# Altium integrated library TI Amplifiers and Linear Special Function Amplifier.IntLib: 708 symbols (part 21 of 47)
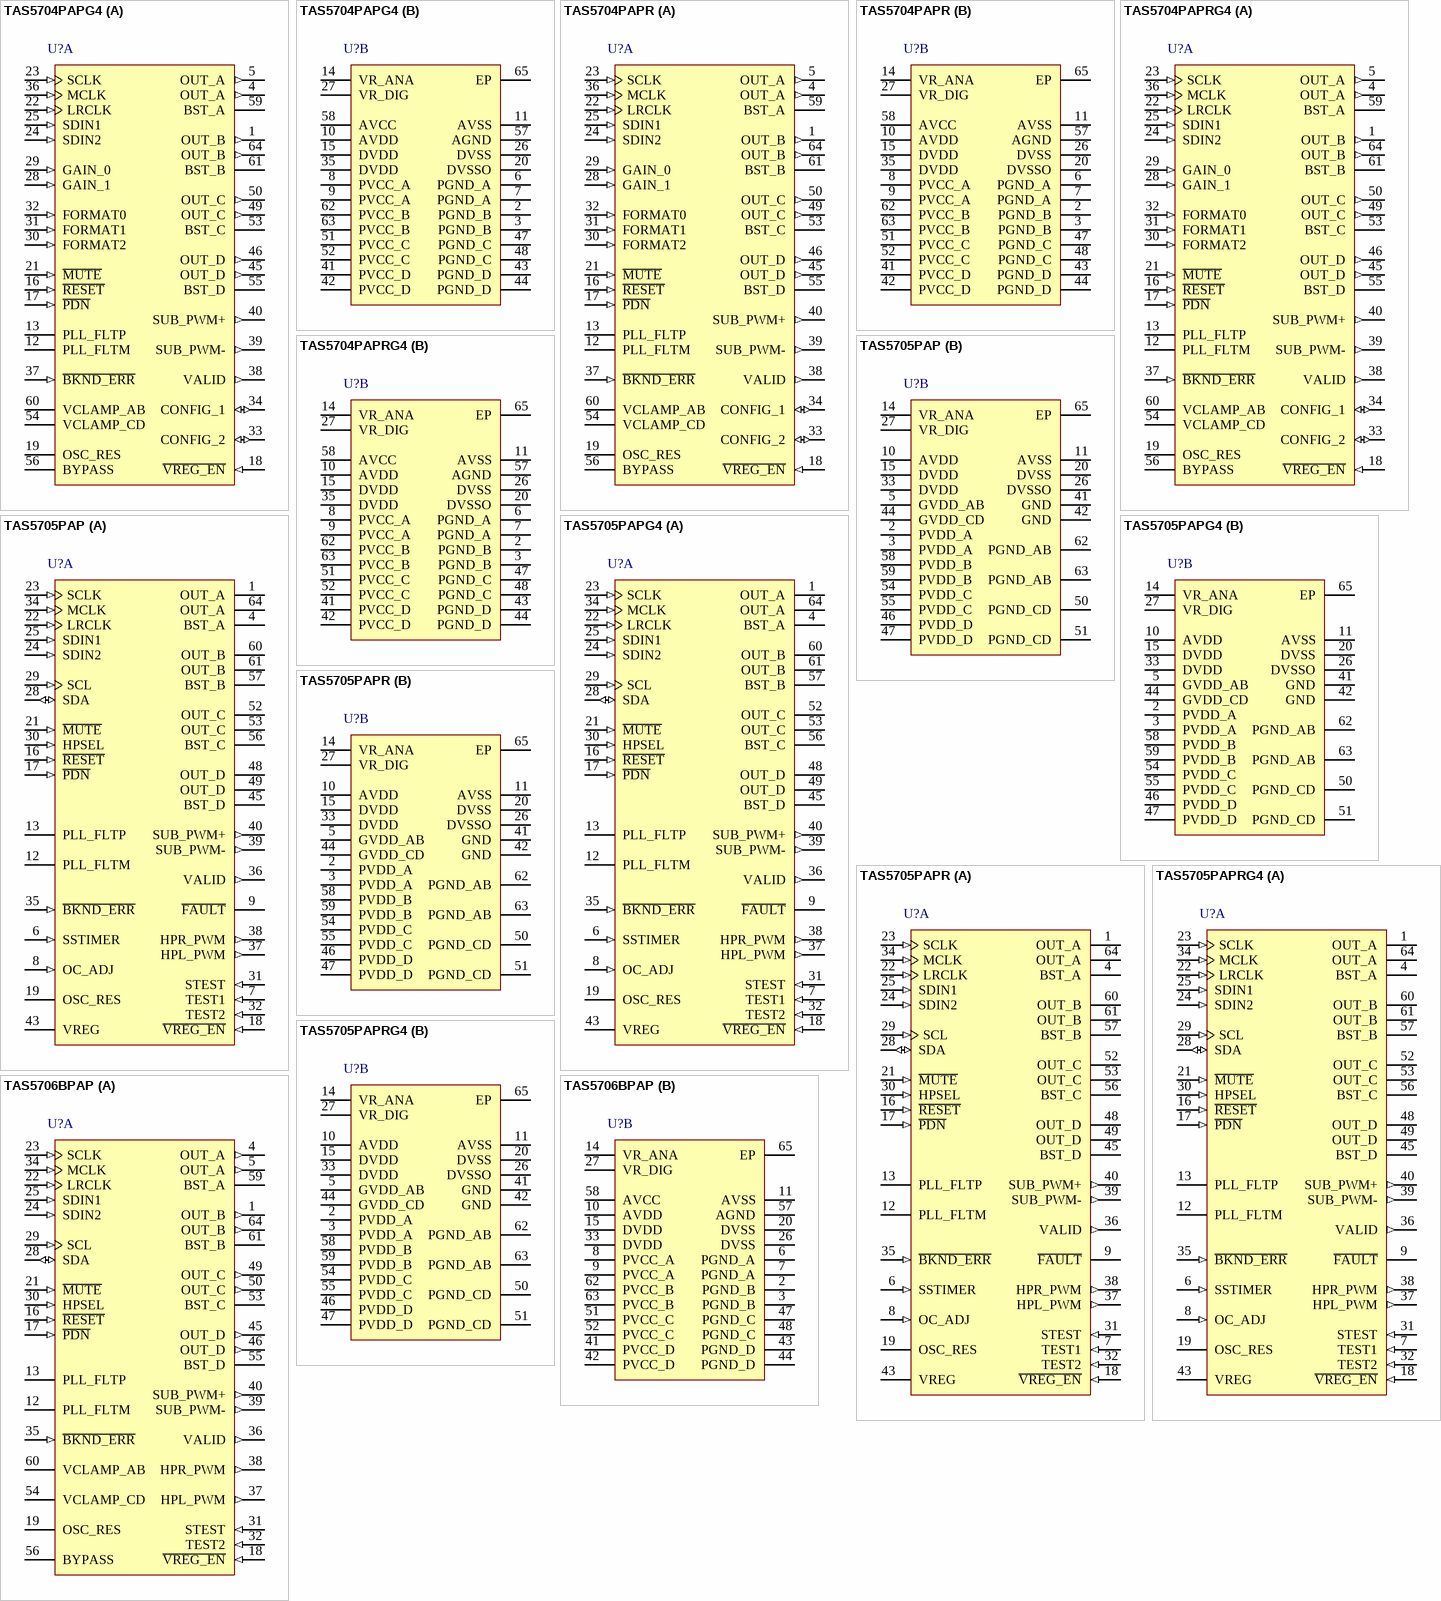
[diagram p59: symbols TAS5704PAPG4 to TAS5706BPAP]

## TAS5706BPAP
designator U?
20 W Closed-Loop I2S Audio Power Amplifier with Speaker EQ, DRC and SE Output Support, 0 to 85 degC, 64-pin QFP (PAP64), Green (RoHS & no Sb/Br); Manufacturer: Texas Instruments; PartNumber: TAS5706BPAP; Analog Supply Max [V]: 3.6; Analog Supply Min [V]: 3; Input Type: Digital; Max. Number of Speaker Outputs: 4; Power Stage Supply Min(V): 10; SubFamily: Mid/High-Power Amplifier; DatasheetVersion: SLOS606D; PackageVersion: 4147702/C, 08/2003; PackageReference: PAP64-4935X4935TP; PackageDescription: 64-Pin Plastic Flat Pack, Body 10 x 10 mm, Pitch 0.5 mm; Supplier 1: Digi-Key; Supplier Part Number 1: 296-24281-ND; Supplier 2: Newark; Supplier Part Number 2: 09R6254; Supplier 3: Mouser; Supplier Part Number 3: 595-TAS5706BPAP; Digital Supply Min [V]: 3; Eco-Plan: Green (RoHS & no Sb/Br); Mounting Technology: Surface Mount; Code_JEDEC: MS-026; ComponentLink1Description: Manufacturer URL; ComponentLink1URL: http://www.ti.com/; ComponentLink2Description: Datasheet; ComponentLink2URL: http://www.ti.com/general/docs/lit/getliterature.tsp?genericPartNumber=TAS5706B&fileType=pdf; ComponentLink3Description: Package Specification; ComponentLink3URL: http://www.ti.com/litv/pdf/mpdi001b
footprint TI-PAP64-4935X4935TP_N (QFP, 64-Leads, Body 10x10mm, Pitch 0.5mm, Thermal Pad 5.3x5.3mm, IPC Medium Density)
footprint TI-PAP64-4935X4935TP_L (QFP, 64-Leads, Body 10x10mm, Pitch 0.5mm, Thermal Pad 5.3x5.3mm, IPC High Density)
footprint TI-PAP64-4935X4935TP_M (QFP, 64-Leads, Body 10x10mm, Pitch 0.5mm, Thermal Pad 5.3x5.3mm, IPC Low Density)
part A pins: 1 OUT_B (out) "Output, half-bridge B", 4 OUT_A (out) "Output, half-bridge A", 5 OUT_A (out) "Output, half-bridge A", 12 PLL_FLTM "PLL negative input", 13 PLL_FLTP "PLL positive input", 16 ~{RESET} (in) "Reset, active-low. A system reset is generated by applying a logic low to this terminal. R\E\S\E\T\ is an asynchronous control signal that restores the DAP to its default conditions, sets the VALID outputs low, and places (See Datasheet)", 17 ~{PDN} (in) "Power down, active-low. P\D\N\ powers down all logic, stops all clocks, and outputs stops switching. When P\D\N\ is released, the device powers up all logic, starts all clocks, and performs a soft start that returns to the (See Datasheet)", 18 ~{VREG_EN} (in) "Voltage regulator enable. Connect directly to GND.", 19 OSC_RES "Oscillator trim resistor. Connect an 18.2-kohm resistor to GND.", 21 ~{MUTE} (in) "Performs a soft mute of outputs, active-low. A logic low on this terminal sets the outputs equal to 50% duty cycle. A logic high on this terminal allows normal operation. The mute control provides a noiseless volume ramp to (See Datasheet)", 22 LRCLK (in) "Input serial audio data left/right clock (sampling rate clock)", 23 SCLK (in) "Serial audio data clock (shift clock). SCLK is the serial audio port input data bit clock.", 24 SDIN2 (in) "Serial audio data-2 input is one of the serial data input ports. SDIN2 supports three discrete (stereo) data formats", 25 SDIN1 (in) "Serial audio data-1 input is one of the serial data input ports. SDIN1 supports three discrete (stereo) data formats.", 28 SDA (io) "I2C serial control data interface input/output", 29 SCL (in) "I2C serial control clock input", 30 HPSEL (in) "Headphone select, active high. When a logic HIGH is applied, device enters headphone mode and speakers are HARD MUTED. When a logic LOW is applied, device is in speaker mode and headphone outputs become line outputs or are (See Datasheet)", 31 STEST (in) "Test terminal. Connect directly to GND.", 32 TEST2 (in) "Test terminal. Connect directly to DVDD.", 34 MCLK (in) "MCLK is the clock master input. The input frequency of this clock can range from 4.9 MHz to 49 MHz.", 35 ~{BKND_ERR} (in) "Active-low. A back-end error sequence is generated by applying logic LOW to this terminal. This terminal is connected to an external power stage. If no external power stage is used, connect this terminal directly to DVDD.", 36 VALID (out) "Output indicating validity of ALL PWM channels, active-high. This terminal is connected to an external power stage. If no external power stage is used, leave this terminal floating.", 37 HPL_PWM (out) "Headphone left-channel PWM output.", 38 HPR_PWM (out) "Headphone right-channel PWM output.", 39 SUB_PWM- (out) "Subwoofer negative PWM output", 40 SUB_PWM+ (out) "Subwoofer positive PWM output", 45 OUT_D (out) "Output, half-bridge D", 46 OUT_D (out) "Output, half-bridge D", 49 OUT_C (out) "Output, half-bridge C", 50 OUT_C (out) "Output, half-bridge C", 53 BST_C "High-side bootstrap supply for half-bridge C", 54 VCLAMP_CD "Internally generated voltage supply for channels C and D gate drive. Not to be used as a supply or connected to any component other than the decoupling capacitor", 55 BST_D "High-side bootstrap supply for half-bridge D", 56 BYPASS "Nominally equal to VCC/8. Internal reference voltage for analog cells", 59 BST_A "High-side bootstrap supply for half-bridge A", 60 VCLAMP_AB "Internally generated voltage supply for channels A and B gate drive. Not to be used as a supply or connected to any component other than the decoupling capacitor", 61 BST_B "High-side bootstrap supply for half-bridge B", 64 OUT_B (out) "Output, half-bridge B"
part B pins: 2 PGND_B (power) "Power ground for half-bridge B", 3 PGND_B (power) "Power ground for half-bridge B", 6 PGND_A (power) "Power ground for half-bridge A", 7 PGND_A (power) "Power ground for half-bridge A", 8 PVCC_A (power) "Power supply input for half-bridge output A", 9 PVCC_A (power) "Power supply input for half-bridge output A", 10 AVDD (power) "3.3-V analog power supply", 11 AVSS (power) "Analog 3.3-V supply ground", 14 VR_ANA (power) "Internally regulated 1.8-V analog supply voltage. This terminal must not be used to power external devices.", 15 DVDD (power) "3.3-V digital power supply", 20 DVSS (power) "Digital ground", 26 DVSS (power) "Digital ground", 27 VR_DIG (power) "Internally regulated 1.8-V digital supply voltage. This terminal must not be used to power external devices.", 33 DVDD (power) "3.3-V digital power supply", 41 PVCC_D (power) "Power supply input for half-bridge output D", 42 PVCC_D (power) "Power supply input for half-bridge output D", 43 PGND_D (power) "Power ground for half-bridge D", 44 PGND_D (power) "Power ground for half-bridge D", 47 PGND_C (power) "Power ground for half-bridge C", 48 PGND_C (power) "Power ground for half-bridge C", 51 PVCC_C (power) "Power supply input for half-bridge output C", 52 PVCC_C (power) "Power supply input for half-bridge output C", 57 AGND (power) "Analog ground for power stage", 58 AVCC (power) "Analog power supply for power stage. Connect externally to same potential as PVCC.", 62 PVCC_B (power) "Power supply input for half-bridge output B", 63 PVCC_B (power) "Power supply input for half-bridge output B", 65 EP

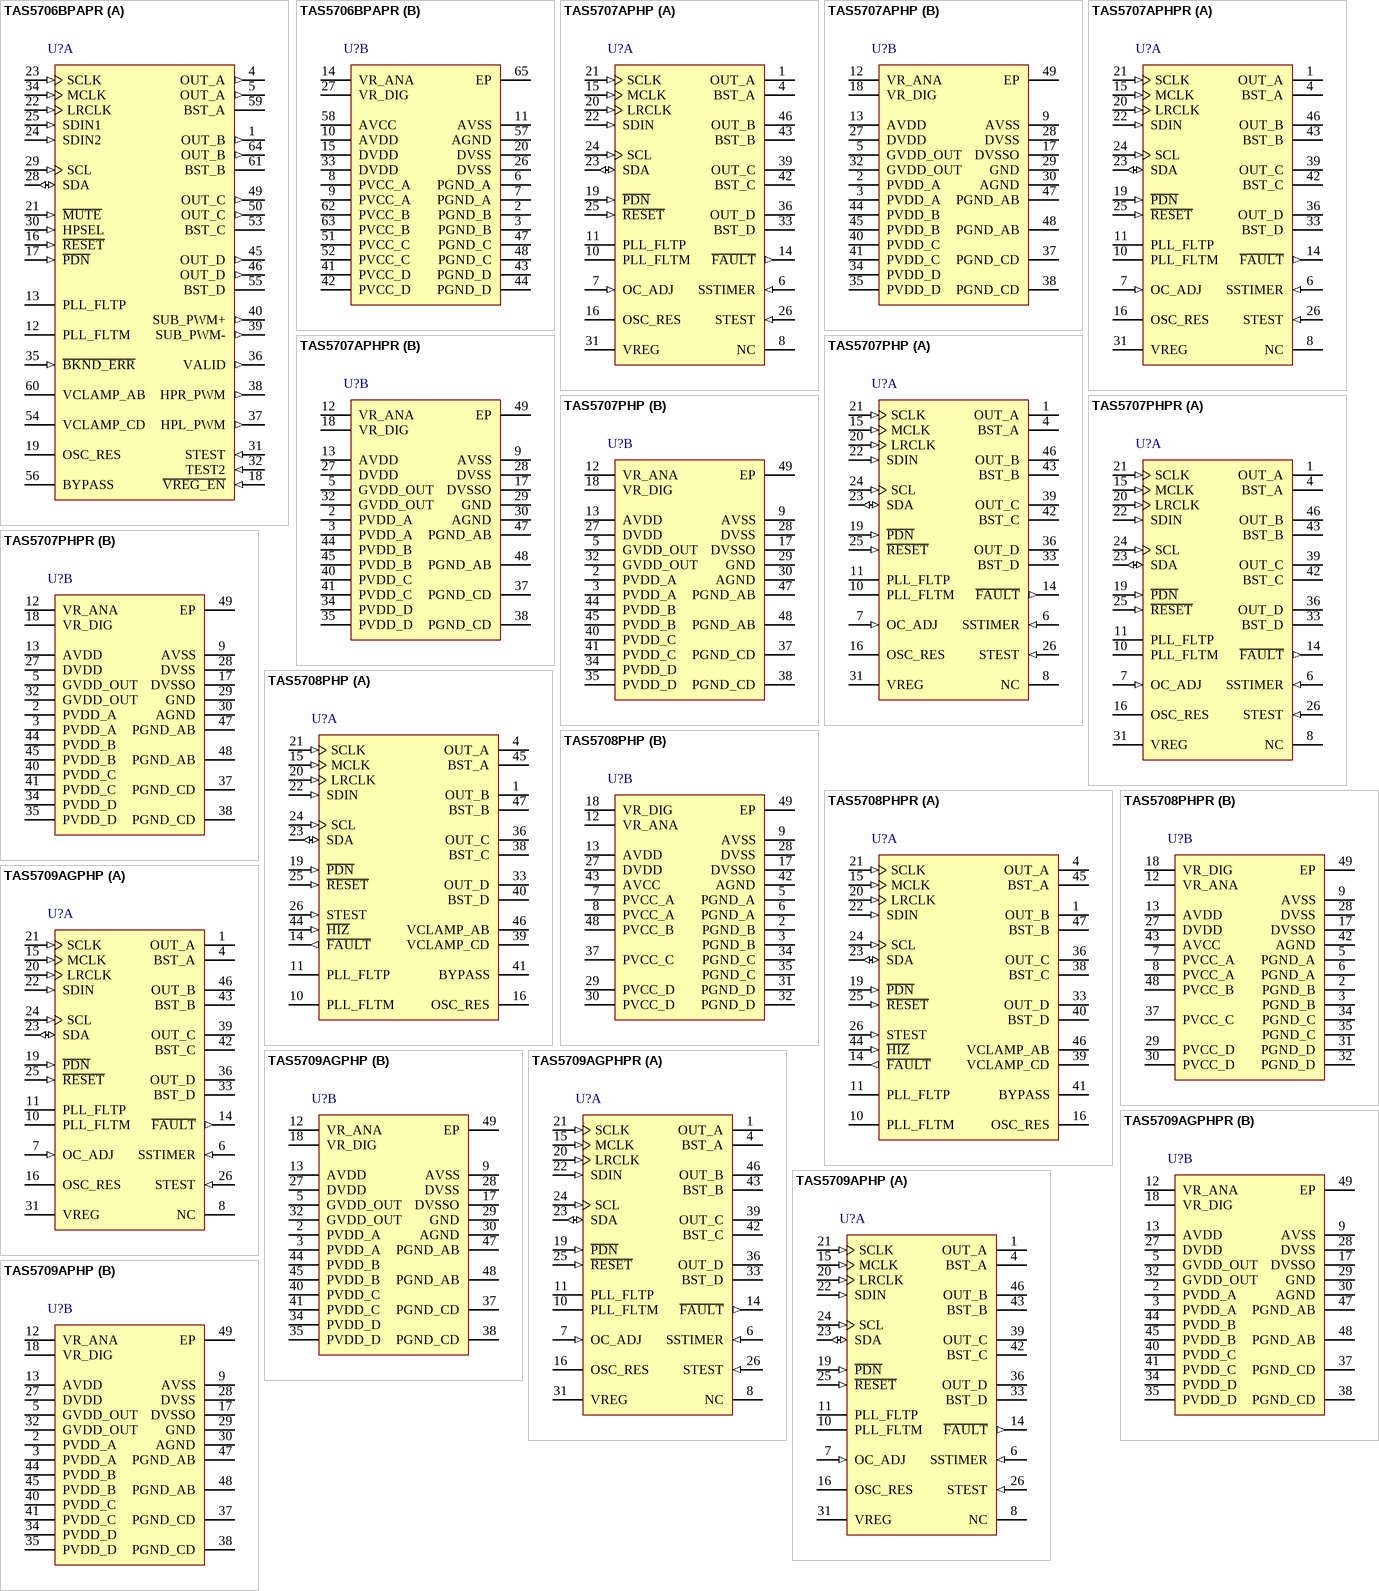
[diagram p20: symbols TAS5706BPAPR to TAS5709APHP]

## TAS5706BPAPR
designator U?
20 W Closed-Loop I2S Audio Power Amplifier with Speaker EQ, DRC and SE Output Support, 0 to 85 degC, 64-pin QFP (PAP64), Green (RoHS & no Sb/Br); Manufacturer: Texas Instruments; PartNumber: TAS5706BPAPR; Analog Supply Max [V]: 3.6; Analog Supply Min [V]: 3; Input Type: Digital; Max. Number of Speaker Outputs: 4; Power Stage Supply Min(V): 10; SubFamily: Mid/High-Power Amplifier; DatasheetVersion: SLOS606D; PackageVersion: 4147702/C, 08/2003; PackageReference: PAP64-4935X4935TP; PackageDescription: 64-Pin Plastic Flat Pack, Body 10 x 10 mm, Pitch 0.5 mm; Supplier 1: Digi-Key; Supplier Part Number 1: TAS5706BPAPR-ND; Supplier 2: Mouser; Supplier Part Number 2: 595-TAS5706BPAPR; Digital Supply Min [V]: 3; Eco-Plan: Green (RoHS & no Sb/Br); Mounting Technology: Surface Mount; Code_JEDEC: MS-026; ComponentLink1Description: Manufacturer URL; ComponentLink1URL: http://www.ti.com/; ComponentLink2Description: Datasheet; ComponentLink2URL: http://www.ti.com/general/docs/lit/getliterature.tsp?genericPartNumber=TAS5706B&fileType=pdf; ComponentLink3Description: Package Specification; ComponentLink3URL: http://www.ti.com/litv/pdf/mpdi001b
footprint TI-PAP64-4935X4935TP_N (QFP, 64-Leads, Body 10x10mm, Pitch 0.5mm, Thermal Pad 5.3x5.3mm, IPC Medium Density)
footprint TI-PAP64-4935X4935TP_L (QFP, 64-Leads, Body 10x10mm, Pitch 0.5mm, Thermal Pad 5.3x5.3mm, IPC High Density)
footprint TI-PAP64-4935X4935TP_M (QFP, 64-Leads, Body 10x10mm, Pitch 0.5mm, Thermal Pad 5.3x5.3mm, IPC Low Density)
part A pins: 1 OUT_B (out) "Output, half-bridge B", 4 OUT_A (out) "Output, half-bridge A", 5 OUT_A (out) "Output, half-bridge A", 12 PLL_FLTM "PLL negative input", 13 PLL_FLTP "PLL positive input", 16 ~{RESET} (in) "Reset, active-low. A system reset is generated by applying a logic low to this terminal. R\E\S\E\T\ is an asynchronous control signal that restores the DAP to its default conditions, sets the VALID outputs low, and places (See Datasheet)", 17 ~{PDN} (in) "Power down, active-low. P\D\N\ powers down all logic, stops all clocks, and outputs stops switching. When P\D\N\ is released, the device powers up all logic, starts all clocks, and performs a soft start that returns to the (See Datasheet)", 18 ~{VREG_EN} (in) "Voltage regulator enable. Connect directly to GND.", 19 OSC_RES "Oscillator trim resistor. Connect an 18.2-kohm resistor to GND.", 21 ~{MUTE} (in) "Performs a soft mute of outputs, active-low. A logic low on this terminal sets the outputs equal to 50% duty cycle. A logic high on this terminal allows normal operation. The mute control provides a noiseless volume ramp to (See Datasheet)", 22 LRCLK (in) "Input serial audio data left/right clock (sampling rate clock)", 23 SCLK (in) "Serial audio data clock (shift clock). SCLK is the serial audio port input data bit clock.", 24 SDIN2 (in) "Serial audio data-2 input is one of the serial data input ports. SDIN2 supports three discrete (stereo) data formats", 25 SDIN1 (in) "Serial audio data-1 input is one of the serial data input ports. SDIN1 supports three discrete (stereo) data formats.", 28 SDA (io) "I2C serial control data interface input/output", 29 SCL (in) "I2C serial control clock input", 30 HPSEL (in) "Headphone select, active high. When a logic HIGH is applied, device enters headphone mode and speakers are HARD MUTED. When a logic LOW is applied, device is in speaker mode and headphone outputs become line outputs or are (See Datasheet)", 31 STEST (in) "Test terminal. Connect directly to GND.", 32 TEST2 (in) "Test terminal. Connect directly to DVDD.", 34 MCLK (in) "MCLK is the clock master input. The input frequency of this clock can range from 4.9 MHz to 49 MHz.", 35 ~{BKND_ERR} (in) "Active-low. A back-end error sequence is generated by applying logic LOW to this terminal. This terminal is connected to an external power stage. If no external power stage is used, connect this terminal directly to DVDD.", 36 VALID (out) "Output indicating validity of ALL PWM channels, active-high. This terminal is connected to an external power stage. If no external power stage is used, leave this terminal floating.", 37 HPL_PWM (out) "Headphone left-channel PWM output.", 38 HPR_PWM (out) "Headphone right-channel PWM output.", 39 SUB_PWM- (out) "Subwoofer negative PWM output", 40 SUB_PWM+ (out) "Subwoofer positive PWM output", 45 OUT_D (out) "Output, half-bridge D", 46 OUT_D (out) "Output, half-bridge D", 49 OUT_C (out) "Output, half-bridge C", 50 OUT_C (out) "Output, half-bridge C", 53 BST_C "High-side bootstrap supply for half-bridge C", 54 VCLAMP_CD "Internally generated voltage supply for channels C and D gate drive. Not to be used as a supply or connected to any component other than the decoupling capacitor", 55 BST_D "High-side bootstrap supply for half-bridge D", 56 BYPASS "Nominally equal to VCC/8. Internal reference voltage for analog cells", 59 BST_A "High-side bootstrap supply for half-bridge A", 60 VCLAMP_AB "Internally generated voltage supply for channels A and B gate drive. Not to be used as a supply or connected to any component other than the decoupling capacitor", 61 BST_B "High-side bootstrap supply for half-bridge B", 64 OUT_B (out) "Output, half-bridge B"
part B pins: 2 PGND_B (power) "Power ground for half-bridge B", 3 PGND_B (power) "Power ground for half-bridge B", 6 PGND_A (power) "Power ground for half-bridge A", 7 PGND_A (power) "Power ground for half-bridge A", 8 PVCC_A (power) "Power supply input for half-bridge output A", 9 PVCC_A (power) "Power supply input for half-bridge output A", 10 AVDD (power) "3.3-V analog power supply", 11 AVSS (power) "Analog 3.3-V supply ground", 14 VR_ANA (power) "Internally regulated 1.8-V analog supply voltage. This terminal must not be used to power external devices.", 15 DVDD (power) "3.3-V digital power supply", 20 DVSS (power) "Digital ground", 26 DVSS (power) "Digital ground", 27 VR_DIG (power) "Internally regulated 1.8-V digital supply voltage. This terminal must not be used to power external devices.", 33 DVDD (power) "3.3-V digital power supply", 41 PVCC_D (power) "Power supply input for half-bridge output D", 42 PVCC_D (power) "Power supply input for half-bridge output D", 43 PGND_D (power) "Power ground for half-bridge D", 44 PGND_D (power) "Power ground for half-bridge D", 47 PGND_C (power) "Power ground for half-bridge C", 48 PGND_C (power) "Power ground for half-bridge C", 51 PVCC_C (power) "Power supply input for half-bridge output C", 52 PVCC_C (power) "Power supply input for half-bridge output C", 57 AGND (power) "Analog ground for power stage", 58 AVCC (power) "Analog power supply for power stage. Connect externally to same potential as PVCC.", 62 PVCC_B (power) "Power supply input for half-bridge output B", 63 PVCC_B (power) "Power supply input for half-bridge output B", 65 EP

## TAS5707APHP
designator U?
20 W Stereo Digital Audio Power Amplifier with EQ and DRC, 0 to 85 degC, 48-pin QFP (PHP48), Green (RoHS & no Sb/Br); Manufacturer: Texas Instruments; PartNumber: TAS5707APHP; Analog Supply Max [V]: 3.6; Analog Supply Min [V]: 3; Max. Number of Speaker Outputs: 2; Power Stage Supply Min(V): 8; SubFamily: Mid/High-Power Amplifier; DatasheetVersion: SLOS556B; PackageVersion: 4146927/B, 08/2003; PackageReference: PHP48-4550X3600TP; PackageDescription: 48-Pin PowerPAD(TM) Plastic Quad Flatpack, Body 7 x 7 mm, Pitch 0.5 mm; Supplier 1: Digi-Key; Supplier Part Number 1: TAS5707APHP-ND; Supplier 2: Mouser; Supplier Part Number 2: 595-TAS5707APHP; Digital Supply Min [V]: 3; Eco-Plan: Green (RoHS & no Sb/Br); Input Type: Digital; Mounting Technology: Surface Mount; Code_JEDEC: MS-026; ComponentLink1Description: Manufacturer URL; ComponentLink1URL: http://www.ti.com/; ComponentLink2Description: Datasheet; ComponentLink2URL: http://www.ti.com/general/docs/lit/getliterature.tsp?genericPartNumber=TAS5707A&fileType=pdf; ComponentLink3Description: Package Specification; ComponentLink3URL: http://www.ti.com/litv/pdf/mpdi001b
footprint TI-PHP48-4550X3600TP_N (QFP, 48-Leads, Body 7x7mm, Pitch 0.5mm, Thermal Pad 5.17x4.04mm, IPC Medium Density)
footprint TI-PHP48-4550X3600TP_L (QFP, 48-Leads, Body 7x7mm, Pitch 0.5mm, Thermal Pad 5.17x4.04mm, IPC High Density)
footprint TI-PHP48-4550X3600TP_M (QFP, 48-Leads, Body 7x7mm, Pitch 0.5mm, Thermal Pad 5.17x4.04mm, IPC Low Density)
part A pins: 1 OUT_A (hiz) "Output, half-bridge A", 4 BST_A "High-side bootstrap supply for half-bridge A", 6 SSTIMER (in) "Controls ramp time of OUT_X to minimize pop. Leave this pin floating for BD mode. Requires capacitor of 2.2 nF to GND in AD mode. The capacitor determines the ramp time.", 7 OC_ADJ (in) "Analog overcurrent programming. Requires resistor to ground.", 8 NC "No connection", 10 PLL_FLTM "PLL negative loop filter terminal", 11 PLL_FLTP "PLL positive loop filter terminal", 14 ~{FAULT} (out) "Backend error indicator. Asserted LOW for over temperature, over current, over voltage, and under voltage error conditions. De-asserted upon recovery from error condition.", 15 MCLK (in) "Master clock input", 16 OSC_RES "Oscillator trim resistor. Connect an 18.2-kohm 1% resistor to DVSSO.", 19 ~{PDN} (in) "Power down, active-low. P\D\N\ prepares the device for loss of power supplies by shutting down the noise shaper and initiating PWM stop sequence.", 20 LRCLK (in) "Input serial audio data left/right clock (sample rate clock)", 21 SCLK (in) "Serial audio data clock (shift clock). SCLK is the serial audio port input data bit clock.", 22 SDIN (in) "Serial audio data input. SDIN supports three discrete (stereo) data formats.", 23 SDA (io) "I2C serial control data interface input/output", 24 SCL (in) "I2C serial control clock input", 25 ~{RESET} (in) "Reset, active-low. A system reset is generated by applying a logic low to this pin. R\E\S\E\T\ is an asynchronous control signal that restores the DAP to its default conditions, and places the PWM in the hard mute state (See Datasheet)", 26 STEST (in) "Factory test pin. Connect directly to DVSS.", 31 VREG "Digital regulator output. Not to be used for powering external circuitry.", 33 BST_D "High-side bootstrap supply for half-bridge D", 36 OUT_D (hiz) "Output, half-bridge D", 39 OUT_C (hiz) "Output, half-bridge C", 42 BST_C "High-side bootstrap supply for half-bridge C", 43 BST_B "High-side bootstrap supply for half-bridge B", 46 OUT_B (hiz) "Output, half-bridge B"
part B pins: 2 PVDD_A (power) "Power supply input for half-bridge output A", 3 PVDD_A (power) "Power supply input for half-bridge output A", 5 GVDD_OUT (power) "Gate drive internal regulator output", 9 AVSS (power) "Analog 3.3-V supply ground", 12 VR_ANA (power) "Internally regulated 1.8-V analog supply voltage. This pin must not be used to power external devices.", 13 AVDD (power) "3.3-V analog power supply", 17 DVSSO (power) "Oscillator ground", 18 VR_DIG (power) "Internally regulated 1.8-V digital supply voltage. This pin must not be used to power external devices.", 27 DVDD (power) "3.3-V digital power supply", 28 DVSS (power) "Digital ground", 29 GND (power) "Analog ground for power stage", 30 AGND (power) "Analog ground for power stage", 32 GVDD_OUT (power) "Gate drive internal regulator output", 34 PVDD_D (power) "Power supply input for half-bridge output D", 35 PVDD_D (power) "Power supply input for half-bridge output D", 37 PGND_CD (power) "Power ground for half-bridges C and D", 38 PGND_CD (power) "Power ground for half-bridges C and D", 40 PVDD_C (power) "Power supply input for half-bridge output C", 41 PVDD_C (power) "Power supply input for half-bridge output C", 44 PVDD_B (power) "Power supply input for half-bridge output B", 45 PVDD_B (power) "Power supply input for half-bridge output B", 47 PGND_AB (power) "Power ground for half-bridges A and B", 48 PGND_AB (power) "Power ground for half-bridges A and B", 49 EP

## TAS5707APHPR
designator U?
20 W Stereo Digital Audio Power Amplifier with EQ and DRC, 0 to 85 degC, 48-pin QFP (PHP48), Green (RoHS & no Sb/Br); Manufacturer: Texas Instruments; PartNumber: TAS5707APHPR; Analog Supply Max [V]: 3.6; Analog Supply Min [V]: 3; Max. Number of Speaker Outputs: 2; Power Stage Supply Min(V): 8; SubFamily: Mid/High-Power Amplifier; DatasheetVersion: SLOS556B; PackageVersion: 4146927/B, 08/2003; PackageReference: PHP48-4550X3600TP; PackageDescription: 48-Pin PowerPAD(TM) Plastic Quad Flatpack, Body 7 x 7 mm, Pitch 0.5 mm; Supplier 1: Digi-Key; Supplier Part Number 1: 296-25484-2-ND; Supplier 2: Digi-Key; Supplier Part Number 2: 296-25484-1-ND; Supplier 3: Digi-Key; Supplier Part Number 3: 296-25484-6-ND; Supplier 4: Mouser; Supplier Part Number 4: 595-TAS5707APHPR; Digital Supply Min [V]: 3; Eco-Plan: Green (RoHS & no Sb/Br); Input Type: Digital; Mounting Technology: Surface Mount; Code_JEDEC: MS-026; ComponentLink1Description: Manufacturer URL; ComponentLink1URL: http://www.ti.com/; ComponentLink2Description: Datasheet; ComponentLink2URL: http://www.ti.com/general/docs/lit/getliterature.tsp?genericPartNumber=TAS5707A&fileType=pdf; ComponentLink3Description: Package Specification; ComponentLink3URL: http://www.ti.com/litv/pdf/mpdi001b
footprint TI-PHP48-4550X3600TP_N (QFP, 48-Leads, Body 7x7mm, Pitch 0.5mm, Thermal Pad 5.17x4.04mm, IPC Medium Density)
footprint TI-PHP48-4550X3600TP_L (QFP, 48-Leads, Body 7x7mm, Pitch 0.5mm, Thermal Pad 5.17x4.04mm, IPC High Density)
footprint TI-PHP48-4550X3600TP_M (QFP, 48-Leads, Body 7x7mm, Pitch 0.5mm, Thermal Pad 5.17x4.04mm, IPC Low Density)
part A pins: 1 OUT_A (hiz) "Output, half-bridge A", 4 BST_A "High-side bootstrap supply for half-bridge A", 6 SSTIMER (in) "Controls ramp time of OUT_X to minimize pop. Leave this pin floating for BD mode. Requires capacitor of 2.2 nF to GND in AD mode. The capacitor determines the ramp time.", 7 OC_ADJ (in) "Analog overcurrent programming. Requires resistor to ground.", 8 NC "No connection", 10 PLL_FLTM "PLL negative loop filter terminal", 11 PLL_FLTP "PLL positive loop filter terminal", 14 ~{FAULT} (out) "Backend error indicator. Asserted LOW for over temperature, over current, over voltage, and under voltage error conditions. De-asserted upon recovery from error condition.", 15 MCLK (in) "Master clock input", 16 OSC_RES "Oscillator trim resistor. Connect an 18.2-kohm 1% resistor to DVSSO.", 19 ~{PDN} (in) "Power down, active-low. P\D\N\ prepares the device for loss of power supplies by shutting down the noise shaper and initiating PWM stop sequence.", 20 LRCLK (in) "Input serial audio data left/right clock (sample rate clock)", 21 SCLK (in) "Serial audio data clock (shift clock). SCLK is the serial audio port input data bit clock.", 22 SDIN (in) "Serial audio data input. SDIN supports three discrete (stereo) data formats.", 23 SDA (io) "I2C serial control data interface input/output", 24 SCL (in) "I2C serial control clock input", 25 ~{RESET} (in) "Reset, active-low. A system reset is generated by applying a logic low to this pin. R\E\S\E\T\ is an asynchronous control signal that restores the DAP to its default conditions, and places the PWM in the hard mute state (See Datasheet)", 26 STEST (in) "Factory test pin. Connect directly to DVSS.", 31 VREG "Digital regulator output. Not to be used for powering external circuitry.", 33 BST_D "High-side bootstrap supply for half-bridge D", 36 OUT_D (hiz) "Output, half-bridge D", 39 OUT_C (hiz) "Output, half-bridge C", 42 BST_C "High-side bootstrap supply for half-bridge C", 43 BST_B "High-side bootstrap supply for half-bridge B", 46 OUT_B (hiz) "Output, half-bridge B"
part B pins: 2 PVDD_A (power) "Power supply input for half-bridge output A", 3 PVDD_A (power) "Power supply input for half-bridge output A", 5 GVDD_OUT (power) "Gate drive internal regulator output", 9 AVSS (power) "Analog 3.3-V supply ground", 12 VR_ANA (power) "Internally regulated 1.8-V analog supply voltage. This pin must not be used to power external devices.", 13 AVDD (power) "3.3-V analog power supply", 17 DVSSO (power) "Oscillator ground", 18 VR_DIG (power) "Internally regulated 1.8-V digital supply voltage. This pin must not be used to power external devices.", 27 DVDD (power) "3.3-V digital power supply", 28 DVSS (power) "Digital ground", 29 GND (power) "Analog ground for power stage", 30 AGND (power) "Analog ground for power stage", 32 GVDD_OUT (power) "Gate drive internal regulator output", 34 PVDD_D (power) "Power supply input for half-bridge output D", 35 PVDD_D (power) "Power supply input for half-bridge output D", 37 PGND_CD (power) "Power ground for half-bridges C and D", 38 PGND_CD (power) "Power ground for half-bridges C and D", 40 PVDD_C (power) "Power supply input for half-bridge output C", 41 PVDD_C (power) "Power supply input for half-bridge output C", 44 PVDD_B (power) "Power supply input for half-bridge output B", 45 PVDD_B (power) "Power supply input for half-bridge output B", 47 PGND_AB (power) "Power ground for half-bridges A and B", 48 PGND_AB (power) "Power ground for half-bridges A and B", 49 EP

## TAS5707PHP
designator U?
20 W Stereo I2S Audio Power Amplifier with Speaker EQ and DRC, 0 to 85 degC, 48-pin QFP (PHP48), Green (RoHS & no Sb/Br); Manufacturer: Texas Instruments; PartNumber: TAS5707PHP; Analog Supply Max [V]: 3.6; Analog Supply Min [V]: 3; Input Type: Digital; Max. Number of Speaker Outputs: 2; Power Stage Supply Min(V): 8; SubFamily: Mid/High-Power Amplifier; DatasheetVersion: SLOS556B; PackageVersion: 4146927/B, 08/2003; PackageReference: PHP48-4550X3600TP; PackageDescription: 48-Pin PowerPAD(TM) Plastic Quad Flatpack, Body 7 x 7 mm, Pitch 0.5 mm; Supplier 1: Digi-Key; Supplier Part Number 1: TAS5707PHP-ND; Supplier 2: Mouser; Supplier Part Number 2: 595-TAS5707PHP; Digital Supply Min [V]: 3; Eco-Plan: Green (RoHS & no Sb/Br); Mounting Technology: Surface Mount; Code_JEDEC: MS-026; ComponentLink1Description: Manufacturer URL; ComponentLink1URL: http://www.ti.com/; ComponentLink2Description: Datasheet; ComponentLink2URL: http://www.ti.com/general/docs/lit/getliterature.tsp?genericPartNumber=TAS5707&fileType=pdf; ComponentLink3Description: Package Specification; ComponentLink3URL: http://www.ti.com/litv/pdf/mpdi001b
footprint TI-PHP48-4550X3600TP_N (QFP, 48-Leads, Body 7x7mm, Pitch 0.5mm, Thermal Pad 5.17x4.04mm, IPC Medium Density)
footprint TI-PHP48-4550X3600TP_L (QFP, 48-Leads, Body 7x7mm, Pitch 0.5mm, Thermal Pad 5.17x4.04mm, IPC High Density)
footprint TI-PHP48-4550X3600TP_M (QFP, 48-Leads, Body 7x7mm, Pitch 0.5mm, Thermal Pad 5.17x4.04mm, IPC Low Density)
part A pins: 1 OUT_A (hiz) "Output, half-bridge A", 4 BST_A "High-side bootstrap supply for half-bridge A", 6 SSTIMER (in) "Controls ramp time of OUT_X to minimize pop. Leave this pin floating for BD mode. Requires capacitor of 2.2 nF to GND in AD mode. The capacitor determines the ramp time.", 7 OC_ADJ (in) "Analog overcurrent programming. Requires resistor to ground.", 8 NC "No connection", 10 PLL_FLTM "PLL negative loop filter terminal", 11 PLL_FLTP "PLL positive loop filter terminal", 14 ~{FAULT} (out) "Backend error indicator. Asserted LOW for over temperature, over current, over voltage, and under voltage error conditions. De-asserted upon recovery from error condition.", 15 MCLK (in) "Master clock input", 16 OSC_RES "Oscillator trim resistor. Connect an 18.2-kohm 1% resistor to DVSSO.", 19 ~{PDN} (in) "Power down, active-low. P\D\N\ prepares the device for loss of power supplies by shutting down the noise shaper and initiating PWM stop sequence.", 20 LRCLK (in) "Input serial audio data left/right clock (sample rate clock)", 21 SCLK (in) "Serial audio data clock (shift clock). SCLK is the serial audio port input data bit clock.", 22 SDIN (in) "Serial audio data input. SDIN supports three discrete (stereo) data formats.", 23 SDA (io) "I2C serial control data interface input/output", 24 SCL (in) "I2C serial control clock input", 25 ~{RESET} (in) "Reset, active-low. A system reset is generated by applying a logic low to this pin. R\E\S\E\T\ is an asynchronous control signal that restores the DAP to its default conditions, and places the PWM in the hard mute state (See Datasheet)", 26 STEST (in) "Factory test pin. Connect directly to DVSS.", 31 VREG "Digital regulator output. Not to be used for powering external circuitry.", 33 BST_D "High-side bootstrap supply for half-bridge D", 36 OUT_D (hiz) "Output, half-bridge D", 39 OUT_C (hiz) "Output, half-bridge C", 42 BST_C "High-side bootstrap supply for half-bridge C", 43 BST_B "High-side bootstrap supply for half-bridge B", 46 OUT_B (hiz) "Output, half-bridge B"
part B pins: 2 PVDD_A (power) "Power supply input for half-bridge output A", 3 PVDD_A (power) "Power supply input for half-bridge output A", 5 GVDD_OUT (power) "Gate drive internal regulator output", 9 AVSS (power) "Analog 3.3-V supply ground", 12 VR_ANA (power) "Internally regulated 1.8-V analog supply voltage. This pin must not be used to power external devices.", 13 AVDD (power) "3.3-V analog power supply", 17 DVSSO (power) "Oscillator ground", 18 VR_DIG (power) "Internally regulated 1.8-V digital supply voltage. This pin must not be used to power external devices.", 27 DVDD (power) "3.3-V digital power supply", 28 DVSS (power) "Digital ground", 29 GND (power) "Analog ground for power stage", 30 AGND (power) "Analog ground for power stage", 32 GVDD_OUT (power) "Gate drive internal regulator output", 34 PVDD_D (power) "Power supply input for half-bridge output D", 35 PVDD_D (power) "Power supply input for half-bridge output D", 37 PGND_CD (power) "Power ground for half-bridges C and D", 38 PGND_CD (power) "Power ground for half-bridges C and D", 40 PVDD_C (power) "Power supply input for half-bridge output C", 41 PVDD_C (power) "Power supply input for half-bridge output C", 44 PVDD_B (power) "Power supply input for half-bridge output B", 45 PVDD_B (power) "Power supply input for half-bridge output B", 47 PGND_AB (power) "Power ground for half-bridges A and B", 48 PGND_AB (power) "Power ground for half-bridges A and B", 49 EP

## TAS5707PHPR
designator U?
20 W Stereo I2S Audio Power Amplifier with Speaker EQ and DRC, 0 to 85 degC, 48-pin QFP (PHP48), Green (RoHS & no Sb/Br); Manufacturer: Texas Instruments; PartNumber: TAS5707PHPR; Analog Supply Max [V]: 3.6; Analog Supply Min [V]: 3; Input Type: Digital; Max. Number of Speaker Outputs: 2; Power Stage Supply Min(V): 8; SubFamily: Mid/High-Power Amplifier; DatasheetVersion: SLOS556B; PackageVersion: 4146927/B, 08/2003; PackageReference: PHP48-4550X3600TP; PackageDescription: 48-Pin PowerPAD(TM) Plastic Quad Flatpack, Body 7 x 7 mm, Pitch 0.5 mm; Supplier 1: Digi-Key; Supplier Part Number 1: 296-23921-2-ND; Supplier 2: Digi-Key; Supplier Part Number 2: 296-23921-1-ND; Supplier 3: Digi-Key; Supplier Part Number 3: 296-23921-6-ND; Supplier 4: Mouser; Supplier Part Number 4: 595-TAS5707PHPR; Digital Supply Min [V]: 3; Eco-Plan: Green (RoHS & no Sb/Br); Mounting Technology: Surface Mount; Code_JEDEC: MS-026; ComponentLink1Description: Manufacturer URL; ComponentLink1URL: http://www.ti.com/; ComponentLink2Description: Datasheet; ComponentLink2URL: http://www.ti.com/general/docs/lit/getliterature.tsp?genericPartNumber=TAS5707&fileType=pdf; ComponentLink3Description: Package Specification; ComponentLink3URL: http://www.ti.com/litv/pdf/mpdi001b
footprint TI-PHP48-4550X3600TP_N (QFP, 48-Leads, Body 7x7mm, Pitch 0.5mm, Thermal Pad 5.17x4.04mm, IPC Medium Density)
footprint TI-PHP48-4550X3600TP_L (QFP, 48-Leads, Body 7x7mm, Pitch 0.5mm, Thermal Pad 5.17x4.04mm, IPC High Density)
footprint TI-PHP48-4550X3600TP_M (QFP, 48-Leads, Body 7x7mm, Pitch 0.5mm, Thermal Pad 5.17x4.04mm, IPC Low Density)
part A pins: 1 OUT_A (hiz) "Output, half-bridge A", 4 BST_A "High-side bootstrap supply for half-bridge A", 6 SSTIMER (in) "Controls ramp time of OUT_X to minimize pop. Leave this pin floating for BD mode. Requires capacitor of 2.2 nF to GND in AD mode. The capacitor determines the ramp time.", 7 OC_ADJ (in) "Analog overcurrent programming. Requires resistor to ground.", 8 NC "No connection", 10 PLL_FLTM "PLL negative loop filter terminal", 11 PLL_FLTP "PLL positive loop filter terminal", 14 ~{FAULT} (out) "Backend error indicator. Asserted LOW for over temperature, over current, over voltage, and under voltage error conditions. De-asserted upon recovery from error condition.", 15 MCLK (in) "Master clock input", 16 OSC_RES "Oscillator trim resistor. Connect an 18.2-kohm 1% resistor to DVSSO.", 19 ~{PDN} (in) "Power down, active-low. P\D\N\ prepares the device for loss of power supplies by shutting down the noise shaper and initiating PWM stop sequence.", 20 LRCLK (in) "Input serial audio data left/right clock (sample rate clock)", 21 SCLK (in) "Serial audio data clock (shift clock). SCLK is the serial audio port input data bit clock.", 22 SDIN (in) "Serial audio data input. SDIN supports three discrete (stereo) data formats.", 23 SDA (io) "I2C serial control data interface input/output", 24 SCL (in) "I2C serial control clock input", 25 ~{RESET} (in) "Reset, active-low. A system reset is generated by applying a logic low to this pin. R\E\S\E\T\ is an asynchronous control signal that restores the DAP to its default conditions, and places the PWM in the hard mute state (See Datasheet)", 26 STEST (in) "Factory test pin. Connect directly to DVSS.", 31 VREG "Digital regulator output. Not to be used for powering external circuitry.", 33 BST_D "High-side bootstrap supply for half-bridge D", 36 OUT_D (hiz) "Output, half-bridge D", 39 OUT_C (hiz) "Output, half-bridge C", 42 BST_C "High-side bootstrap supply for half-bridge C", 43 BST_B "High-side bootstrap supply for half-bridge B", 46 OUT_B (hiz) "Output, half-bridge B"
part B pins: 2 PVDD_A (power) "Power supply input for half-bridge output A", 3 PVDD_A (power) "Power supply input for half-bridge output A", 5 GVDD_OUT (power) "Gate drive internal regulator output", 9 AVSS (power) "Analog 3.3-V supply ground", 12 VR_ANA (power) "Internally regulated 1.8-V analog supply voltage. This pin must not be used to power external devices.", 13 AVDD (power) "3.3-V analog power supply", 17 DVSSO (power) "Oscillator ground", 18 VR_DIG (power) "Internally regulated 1.8-V digital supply voltage. This pin must not be used to power external devices.", 27 DVDD (power) "3.3-V digital power supply", 28 DVSS (power) "Digital ground", 29 GND (power) "Analog ground for power stage", 30 AGND (power) "Analog ground for power stage", 32 GVDD_OUT (power) "Gate drive internal regulator output", 34 PVDD_D (power) "Power supply input for half-bridge output D", 35 PVDD_D (power) "Power supply input for half-bridge output D", 37 PGND_CD (power) "Power ground for half-bridges C and D", 38 PGND_CD (power) "Power ground for half-bridges C and D", 40 PVDD_C (power) "Power supply input for half-bridge output C", 41 PVDD_C (power) "Power supply input for half-bridge output C", 44 PVDD_B (power) "Power supply input for half-bridge output B", 45 PVDD_B (power) "Power supply input for half-bridge output B", 47 PGND_AB (power) "Power ground for half-bridges A and B", 48 PGND_AB (power) "Power ground for half-bridges A and B", 49 EP

## TAS5708PHP
designator U?
20 W Stereo Closed-Loop I2S Audio Power Amplifier with Speaker EQ and DRC, 0 to 85 degC, 48-pin QFP (PHP48), Green (RoHS & no Sb/Br); Manufacturer: Texas Instruments; PartNumber: TAS5708PHP; Analog Supply Max [V]: 3.6; Analog Supply Min [V]: 3; Input Type: Digital; Max. Number of Speaker Outputs: 2; Power Stage Supply Min(V): 10; SubFamily: Mid/High-Power Amplifier; DatasheetVersion: SLOS570; PackageVersion: 4040082/E, 04/2010; PackageReference: PHP48-4785X4785TP; PackageDescription: 48-Pin PowerPAD(TM) Plastic Quad Flatpack, Body 7 x 7 mm, Pitch 0.5 mm; Supplier 1: Digi-Key; Supplier Part Number 1: 296-32729-ND; Supplier 2: Mouser; Supplier Part Number 2: 595-TAS5708PHP; Digital Supply Min [V]: 3; Eco-Plan: Green (RoHS & no Sb/Br); Mounting Technology: Through Hole; Code_JEDEC: MS-001; ComponentLink1Description: Manufacturer URL; ComponentLink1URL: http://www.ti.com/; ComponentLink2Description: Datasheet; ComponentLink2URL: http://www.ti.com/general/docs/lit/getliterature.tsp?genericPartNumber=TAS5708&fileType=pdf; ComponentLink3Description: Package Specification; ComponentLink3URL: http://www.ti.com/litv/pdf/mpdi001b
footprint TI-PHP48-4785X4785TP_N (QFP, 48-Leads, Body 7x7mm, Pitch 0.5mm, Thermal Pad 5.39x5.39mm, IPC Medium Density)
footprint TI-PHP48-4785X4785TP_L (QFP, 48-Leads, Body 7x7mm, Pitch 0.5mm, Thermal Pad 5.39x5.39mm, IPC High Density)
footprint TI-PHP48-4785X4785TP_M (QFP, 48-Leads, Body 7x7mm, Pitch 0.5mm, Thermal Pad 5.39x5.39mm, IPC Low Density)
part A pins: 1 OUT_B (hiz) "Output, half-bridge B", 4 OUT_A (hiz) "Output, half-bridge A", 10 PLL_FLTM "PLL negative loop filter terminal", 11 PLL_FLTP "PLL positive loop filter terminal", 14 ~{FAULT} (out) "Backend error indicator. Asserted LOW for over current errors. De-asserted upon recovery from error condition.", 15 MCLK (in) "Master Clock Input", 16 OSC_RES "Oscillator trim resistor. Connect an 18.2-kohm 1% resistor to DVSSO.", 19 ~{PDN} (in) "Power down, active-low. P\D\N\ prepares the device for loss of power supplies by shutting down the Noise Shaper and initiating PWM stop sequence.", 20 LRCLK (in) "Input serial audio data left/right clock (sample rate clock)", 21 SCLK (in) "I2C serial control clock input", 22 SDIN (in) "Serial audio data input. SDIN supports three discrete (stereo) data formats.", 23 SDA (io) "I2C serial control data interface input/output", 24 SCL (in) "Serial audio data clock (shift clock). SCLK is the serial audio port input data bit clock.", 25 ~{RESET} (in) "Reset, active-low. A system reset is generated by applying a logic low to this pin. R\E\S\E\T\ is an asynchronous control signal that restores the DAP to its default conditions, and places the PWM in the hard mute state (See Datasheet)", 26 STEST (in) "Factory test pin. Connect directly to DVSS.", 33 OUT_D (hiz) "Output, half-bridge D", 36 OUT_C (hiz) "Output, half-bridge C", 38 BST_C "High-side bootstrap supply for half-bridge C", 39 VCLAMP_CD "Internally generated voltage supply for channel C and D gate drive.This pin must not be used to power external devices.Connect only to external decoupling capacitor", 40 BST_D "High-side bootstrap supply for half-bridge D", 41 BYPASS "Nominally equal to VCC/8. Internal reference voltage for analog cells", 44 ~{HIZ} (in) "Enable high-impedance (Hi-Z) mode (active low)", 45 BST_A "High-side bootstrap supply for half-bridge A", 46 VCLAMP_AB "Internally generated voltage supply for channel A and B gate drive.This pin must not be used to power external devices.Connect only to external decoupling capacitor", 47 BST_B "High-side bootstrap supply for half-bridge B"
part B pins: 2 PGND_B (power) "Power ground for half-bridge B", 3 PGND_B (power) "Power ground for half-bridge B", 5 PGND_A (power) "Power ground for half-bridge A", 6 PGND_A (power) "Power ground for half-bridge A", 7 PVCC_A (power) "Power supply input for half-bridge output A", 8 PVCC_A (power) "Power supply input for half-bridge output A", 9 AVSS (power) "Analog 3.3-V supply ground", 12 VR_ANA (power) "Internally regulated 1.8-V analog supply voltage. This pin must not be used to power external devices.", 13 AVDD (power) "3.3-V analog power supply", 17 DVSSO (power) "Oscillator Ground", 18 VR_DIG (power) "Internally regulated 1.8-V digital supply voltage. This pin must not be used to power external devices.", 27 DVDD (power) "3.3-V digital power supply", 28 DVSS (power) "Digital ground", 29 PVCC_D (power) "Power supply input for half-bridge output D", 30 PVCC_D (power) "Power supply input for half-bridge output D", 31 PGND_D (power) "Power ground for half-bridge D", 32 PGND_D (power) "Power ground for half-bridge D", 34 PGND_C (power) "Power ground for half-bridge C", 35 PGND_C (power) "Power ground for half-bridge C", 37 PVCC_C (power) "Power supply input for half-bridge output C", 42 AGND (power) "Analog ground for power stage", 43 AVCC (power) "Analog power supply for power stage. Connect externally to same potential as PVCC.", 48 PVCC_B (power) "Power supply input for half-bridge output B", 49 EP

## TAS5708PHPR
designator U?
20 W Stereo Closed-Loop I2S Audio Power Amplifier with Speaker EQ and DRC, 0 to 85 degC, 48-pin QFP (PHP48), Green (RoHS & no Sb/Br); Manufacturer: Texas Instruments; PartNumber: TAS5708PHPR; Analog Supply Max [V]: 3.6; Analog Supply Min [V]: 3; Input Type: Digital; Max. Number of Speaker Outputs: 2; Power Stage Supply Min(V): 10; SubFamily: Mid/High-Power Amplifier; DatasheetVersion: SLOS570; PackageVersion: 4040082/E, 04/2010; PackageReference: PHP48-4785X4785TP; PackageDescription: 48-Pin PowerPAD(TM) Plastic Quad Flatpack, Body 7 x 7 mm, Pitch 0.5 mm; Supplier 1: Digi-Key; Supplier Part Number 1: 296-24005-2-ND; Supplier 2: Digi-Key; Supplier Part Number 2: 296-24005-1-ND; Supplier 3: Digi-Key; Supplier Part Number 3: 296-24005-6-ND; Supplier 4: Mouser; Supplier Part Number 4: 595-TAS5708PHPR; Digital Supply Min [V]: 3; Eco-Plan: Green (RoHS & no Sb/Br); Mounting Technology: Through Hole; Code_JEDEC: MS-001; ComponentLink1Description: Manufacturer URL; ComponentLink1URL: http://www.ti.com/; ComponentLink2Description: Datasheet; ComponentLink2URL: http://www.ti.com/general/docs/lit/getliterature.tsp?genericPartNumber=TAS5708&fileType=pdf; ComponentLink3Description: Package Specification; ComponentLink3URL: http://www.ti.com/litv/pdf/mpdi001b
footprint TI-PHP48-4785X4785TP_N (QFP, 48-Leads, Body 7x7mm, Pitch 0.5mm, Thermal Pad 5.39x5.39mm, IPC Medium Density)
footprint TI-PHP48-4785X4785TP_L (QFP, 48-Leads, Body 7x7mm, Pitch 0.5mm, Thermal Pad 5.39x5.39mm, IPC High Density)
footprint TI-PHP48-4785X4785TP_M (QFP, 48-Leads, Body 7x7mm, Pitch 0.5mm, Thermal Pad 5.39x5.39mm, IPC Low Density)
part A pins: 1 OUT_B (hiz) "Output, half-bridge B", 4 OUT_A (hiz) "Output, half-bridge A", 10 PLL_FLTM "PLL negative loop filter terminal", 11 PLL_FLTP "PLL positive loop filter terminal", 14 ~{FAULT} (out) "Backend error indicator. Asserted LOW for over current errors. De-asserted upon recovery from error condition.", 15 MCLK (in) "Master Clock Input", 16 OSC_RES "Oscillator trim resistor. Connect an 18.2-kohm 1% resistor to DVSSO.", 19 ~{PDN} (in) "Power down, active-low. P\D\N\ prepares the device for loss of power supplies by shutting down the Noise Shaper and initiating PWM stop sequence.", 20 LRCLK (in) "Input serial audio data left/right clock (sample rate clock)", 21 SCLK (in) "I2C serial control clock input", 22 SDIN (in) "Serial audio data input. SDIN supports three discrete (stereo) data formats.", 23 SDA (io) "I2C serial control data interface input/output", 24 SCL (in) "Serial audio data clock (shift clock). SCLK is the serial audio port input data bit clock.", 25 ~{RESET} (in) "Reset, active-low. A system reset is generated by applying a logic low to this pin. R\E\S\E\T\ is an asynchronous control signal that restores the DAP to its default conditions, and places the PWM in the hard mute state (See Datasheet)", 26 STEST (in) "Factory test pin. Connect directly to DVSS.", 33 OUT_D (hiz) "Output, half-bridge D", 36 OUT_C (hiz) "Output, half-bridge C", 38 BST_C "High-side bootstrap supply for half-bridge C", 39 VCLAMP_CD "Internally generated voltage supply for channel C and D gate drive.This pin must not be used to power external devices.Connect only to external decoupling capacitor", 40 BST_D "High-side bootstrap supply for half-bridge D", 41 BYPASS "Nominally equal to VCC/8. Internal reference voltage for analog cells", 44 ~{HIZ} (in) "Enable high-impedance (Hi-Z) mode (active low)", 45 BST_A "High-side bootstrap supply for half-bridge A", 46 VCLAMP_AB "Internally generated voltage supply for channel A and B gate drive.This pin must not be used to power external devices.Connect only to external decoupling capacitor", 47 BST_B "High-side bootstrap supply for half-bridge B"
part B pins: 2 PGND_B (power) "Power ground for half-bridge B", 3 PGND_B (power) "Power ground for half-bridge B", 5 PGND_A (power) "Power ground for half-bridge A", 6 PGND_A (power) "Power ground for half-bridge A", 7 PVCC_A (power) "Power supply input for half-bridge output A", 8 PVCC_A (power) "Power supply input for half-bridge output A", 9 AVSS (power) "Analog 3.3-V supply ground", 12 VR_ANA (power) "Internally regulated 1.8-V analog supply voltage. This pin must not be used to power external devices.", 13 AVDD (power) "3.3-V analog power supply", 17 DVSSO (power) "Oscillator Ground", 18 VR_DIG (power) "Internally regulated 1.8-V digital supply voltage. This pin must not be used to power external devices.", 27 DVDD (power) "3.3-V digital power supply", 28 DVSS (power) "Digital ground", 29 PVCC_D (power) "Power supply input for half-bridge output D", 30 PVCC_D (power) "Power supply input for half-bridge output D", 31 PGND_D (power) "Power ground for half-bridge D", 32 PGND_D (power) "Power ground for half-bridge D", 34 PGND_C (power) "Power ground for half-bridge C", 35 PGND_C (power) "Power ground for half-bridge C", 37 PVCC_C (power) "Power supply input for half-bridge output C", 42 AGND (power) "Analog ground for power stage", 43 AVCC (power) "Analog power supply for power stage. Connect externally to same potential as PVCC.", 48 PVCC_B (power) "Power supply input for half-bridge output B", 49 EP

## TAS5709AGPHP
designator U?
20 W Stereo I2S Audio Amplifier with Speaker EQ and 2-Band DRC, 0 to 85 degC, 48-pin QFP (PHP48), Green (RoHS & no Sb/Br); Manufacturer: Texas Instruments; PartNumber: TAS5709AGPHP; Analog Supply Max [V]: 3.6; Analog Supply Min [V]: 3; Input Type: Digital; Max. Number of Speaker Outputs: 2; SubFamily: Mid/High-Power Amplifier; DatasheetVersion: SLOS599A; PackageVersion: 4146927/B, 08/2003; PackageReference: PHP48-4550X3600TP; PackageDescription: 48-Pin PowerPAD(TM) Plastic Quad Flatpack, Body 7 x 7 mm, Pitch 0.5 mm; Supplier 1: Mouser; Supplier Part Number 1: N/A; Digital Supply Min [V]: 3; Eco-Plan: Green (RoHS & no Sb/Br); Mounting Technology: Surface Mount; Code_JEDEC: MS-026; ComponentLink1Description: Manufacturer URL; ComponentLink1URL: http://www.ti.com/; ComponentLink2Description: Datasheet; ComponentLink2URL: http://www.ti.com/general/docs/lit/getliterature.tsp?genericPartNumber=TAS5709A&fileType=pdf; ComponentLink3Description: Package Specification; ComponentLink3URL: http://www.ti.com/litv/pdf/mpdi001b
footprint TI-PHP48-4550X3600TP_N (QFP, 48-Leads, Body 7x7mm, Pitch 0.5mm, Thermal Pad 5.17x4.04mm, IPC Medium Density)
footprint TI-PHP48-4550X3600TP_L (QFP, 48-Leads, Body 7x7mm, Pitch 0.5mm, Thermal Pad 5.17x4.04mm, IPC High Density)
footprint TI-PHP48-4550X3600TP_M (QFP, 48-Leads, Body 7x7mm, Pitch 0.5mm, Thermal Pad 5.17x4.04mm, IPC Low Density)
part A pins: 1 OUT_A (hiz) "Output, half-bridge A", 4 BST_A "High-side bootstrap supply for half-bridge A", 6 SSTIMER (in) "Controls ramp time of OUT_X to minimize pop. Leave this pin floating for BD mode. Requires capacitor of 2.2 nF to GND in AD mode. The capacitor determines the ramp time.", 7 OC_ADJ (in) "Analog overcurrent programming. Requires resistor to ground.", 8 NC "No connection", 10 PLL_FLTM "PLL negative loop filter terminal", 11 PLL_FLTP "PLL positive loop filter terminal", 14 ~{FAULT} (out) "Backend error indicator. Asserted LOW for over temperature, over current, over voltage, and under voltage error conditions. De-asserted upon recovery from error condition.", 15 MCLK (in) "Master clock input", 16 OSC_RES "Oscillator trim resistor. Connect an 18.2-kohm 1% resistor to DVSSO.", 19 ~{PDN} (in) "Power down, active-low. P\D\N\ prepares the device for loss of power supplies by shutting down the noise shaper and initiating PWM stop sequence.", 20 LRCLK (in) "Input serial audio data left/right clock (sample rate clock)", 21 SCLK (in) "Serial audio data clock (shift clock). SCLK is the serial audio port input data bit clock.", 22 SDIN (in) "Serial audio data input. SDIN supports three discrete (stereo) data formats.", 23 SDA (io) "I2C serial control data interface input/output", 24 SCL (in) "I2C serial control clock input", 25 ~{RESET} (in) "Reset, active-low. A system reset is generated by applying a logic low to this pin. R\E\S\E\T\ is an asynchronous control signal that restores the DAP to its default conditions, and places the PWM in the hard mute state (See Datasheet)", 26 STEST (in) "Factory test pin. Connect directly to DVSS.", 31 VREG "Digital regulator output. Not to be used for powering external circuitry.", 33 BST_D "High-side bootstrap supply for half-bridge D", 36 OUT_D (hiz) "Output, half-bridge D", 39 OUT_C (hiz) "Output, half-bridge C", 42 BST_C "High-side bootstrap supply for half-bridge C", 43 BST_B "High-side bootstrap supply for half-bridge B", 46 OUT_B (hiz) "Output, half-bridge B"
part B pins: 2 PVDD_A (power) "Power supply input for half-bridge output A", 3 PVDD_A (power) "Power supply input for half-bridge output A", 5 GVDD_OUT (power) "Gate drive internal regulator output", 9 AVSS (power) "Analog 3.3-V supply ground", 12 VR_ANA (power) "Internally regulated 1.8-V analog supply voltage. This pin must not be used to power external devices.", 13 AVDD (power) "3.3-V analog power supply", 17 DVSSO (power) "Oscillator ground", 18 VR_DIG (power) "Internally regulated 1.8-V digital supply voltage. This pin must not be used to power external devices.", 27 DVDD (power) "3.3-V digital power supply", 28 DVSS (power) "Digital ground", 29 GND (power) "Analog ground for power stage", 30 AGND (power) "Analog ground for power stage", 32 GVDD_OUT (power) "Gate drive internal regulator output", 34 PVDD_D (power) "Power supply input for half-bridge output D", 35 PVDD_D (power) "Power supply input for half-bridge output D", 37 PGND_CD (power) "Power ground for half-bridges C and D", 38 PGND_CD (power) "Power ground for half-bridges C and D", 40 PVDD_C (power) "Power supply input for half-bridge output C", 41 PVDD_C (power) "Power supply input for half-bridge output C", 44 PVDD_B (power) "Power supply input for half-bridge output B", 45 PVDD_B (power) "Power supply input for half-bridge output B", 47 PGND_AB (power) "Power ground for half-bridges A and B", 48 PGND_AB (power) "Power ground for half-bridges A and B", 49 EP